# EAGLE library part DKMW30F-15 (library DKMW30F-15)
Isolated DC/DC Converters Source: Datasheet <https://media.digikey.com/pdf/Data Sheets/Mean Well PDF>
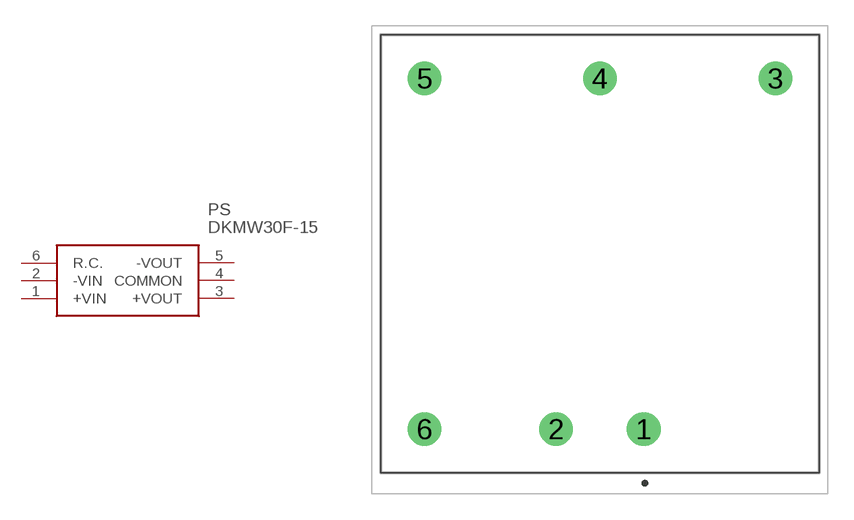
[diagram p0: symbol with the pads of DKMW30F15; footprint DKMW30F15]

Designator prefix PS

## DKMW30F-15 (Arrow_Part_Number: DKMW30F-15; Arrow_Price-Stock: https://www.arrow.com/en/products/dkmw30f-15/mean-well-enterprises; Description: Isolated DC/DC Converters; Height: 10.2mm; Manufacturer_Name: Mean Well; Manufacturer_Part_Number: DKMW30F-15; Mouser_Part_Number: 709-DKMW30F-15; Mouser_Price-Stock: https://www.mouser.co.uk/ProductDetail/MEAN-WELL/DKMW30F-15?qs=5aG0NVq1C4yNc3LnGPT%252BeA%3D%3D)  [DKMW30F15]
1  +VIN
2  -VIN
3  +VOUT
4  COMMON
5  -VOUT
6  R.C.

## Footprint DKMW30F15 (pad centres in mm)
DKMW30F-15-4
drill 1.3 pad 1.95: 1 0,0; 2 -5.08,0; 3 7.62,20.32; 4 -2.54,20.32; 5 -12.7,20.32; 6 -12.7,0